# Altium schematic symbol library SCH_Module.SchLib: 4 symbols
Pins are listed as number, name and electrical type; pins without a type are passive.

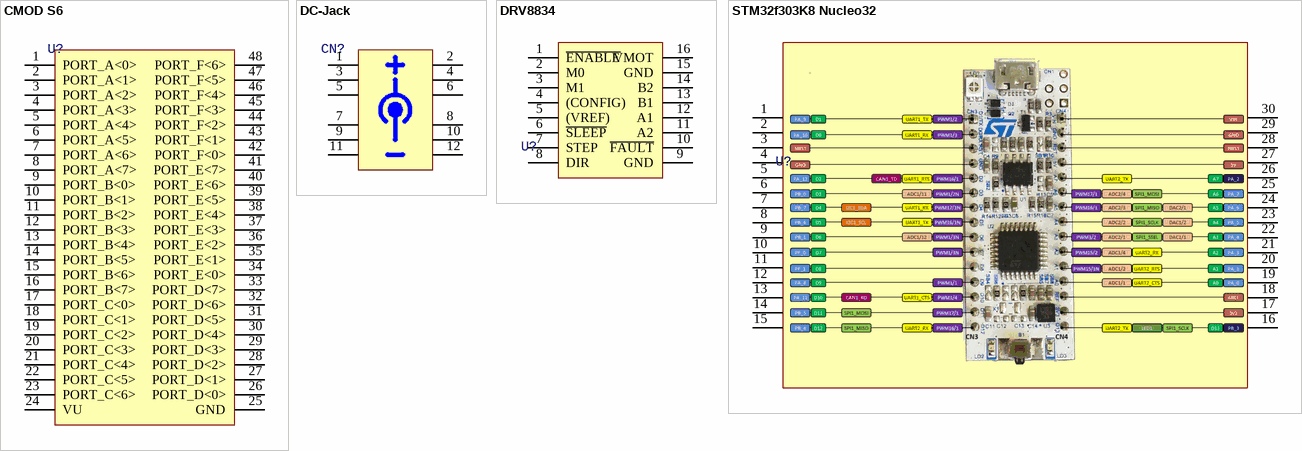
[diagram p0: symbols CMOD S6 to STM32f303K8 Nucleo32]

## CMOD S6
designator U?  (value not drawn)
Digilent CMOD S6; Manufacturer: Digilent, Inc.; Manufacturer Part Number: 410-282; 部品状況: 有効; タイプ: FPGA; 同時使用/関連製品: Spartan 6; 内容: ボード; Supplier 1: Digi-Key; RoHS: RoHS Compliant; Category: 開発ボード、キット、プログラマ; Stock 1: 127; Pricing 1: 1=8384 (JPY); ComponentLink1URL: https://reference.digilentinc.com/_media/cmod_s6:cmods6_rm.pdf; ComponentLink1Description: https://reference.digilentinc.com/_media/cmod_s6:cmods6_rm.pdf; Supplier Part Number 1: 1286-1046-ND
footprint CMOD-S6
pins: 1 PORT_A<0>, 2 PORT_A<1>, 3 PORT_A<2>, 4 PORT_A<3>, 5 PORT_A<4>, 6 PORT_A<5>, 7 PORT_A<6>, 8 PORT_A<7>, 9 PORT_B<0>, 10 PORT_B<1>, 11 PORT_B<2>, 12 PORT_B<3>, 13 PORT_B<4>, 14 PORT_B<5>, 15 PORT_B<6>, 16 PORT_B<7>, 17 PORT_C<0>, 18 PORT_C<1>, 19 PORT_C<2>, 20 PORT_C<3>, 21 PORT_C<4>, 22 PORT_C<5>, 23 PORT_C<6>, 24 VU, 25 GND, 26 PORT_D<0>, 27 PORT_D<1>, 28 PORT_D<2>, 29 PORT_D<3>, 30 PORT_D<4>, 31 PORT_D<5>, 32 PORT_D<6>, 33 PORT_D<7>, 34 PORT_E<0>, 35 PORT_E<1>, 36 PORT_E<2>, 37 PORT_E<3>, 38 PORT_E<4>, 39 PORT_E<5>, 40 PORT_E<6>, 41 PORT_E<7>, 42 PORT_F<0>, 43 PORT_F<1>, 44 PORT_F<2>, 45 PORT_F<3>, 46 PORT_F<4>, 47 PORT_F<5>, 48 PORT_F<6>

## DC-Jack
designator CN?, comment AE-DC-JACK-10A-DIP  (value not drawn)
footprint DC-Jack_DIP
pins: 1, 2, 3, 4, 5, 6, 7, 8, 9, 10, 11, 12

## DRV8834
designator U?  (value not drawn)
Pololu DRV8834 Module
footprint DRV8834 (DRV8834 Pololu Module)
pins: 1 ~{ENABLE}, 2 M0, 3 M1, 4 (CONFIG), 5 (VREF), 6 ~{SLEEP}, 7 STEP, 8 DIR, 9 GND, 10 ~{FAULT}, 11 A2, 12 A1, 13 B1, 14 B2, 15 GND, 16 VMOT

## STM32f303K8 Nucleo32
designator U?, comment NUCLEO-F303K8  (value not drawn)
BOARD NUCLEO STM32F303K8T6; Manufacturer: STMicroelectronics; Board Type: Evaluation Platform; Core Processor: ARM® Cortex®-M4; For Use With/Related Products: STM32F303K8, mbed-Enabled Development; Contents: Board(s); Supplier 1: Digi-Key; Manufacturer Part Number: NUCLEO-F303K8; RoHS: RoHS Compliant; Category: Development Boards, Kits, Programmers; Stock 1: 303; Pricing 1: 1=10.99 (USD); Part Status: Active; Type: MCU 32-Bit; Operating System: -; Platform: Nucleo; Mounting Type: Fixed; ComponentLink1URL: http://www.st.com/content/ccc/resource/technical/document/data_brief/b1/d8/13/d4/b0/b7/4b/6e/DM00214578.pdf/files/DM00214578.pdf/jcr:content/translations/en.DM00214578.pdf; ComponentLink1Description: http://www.st.com/content/ccc/resource/technical/document/data_brief/b1/d8/13/d4/b0/b7/4b/6e/DM00214578.pdf/files/DM00214578.pdf/jcr:content/translations/en.DM00214578.pdf; Supplier Part Number 1: 497-15981-ND
footprint STM32 Nucleo32
pins: 1 PA9-D1-UART1_RX-PWM1/2, 2 PA10-D0-UART1_RX-PWM1/3, 3 NRST, 4 GND, 5 PA12-D2-CAN1_TD-UART1_RTS-PWM16/1, 6 PB0-D3-ADC1/11-PWM1/2N, 7 PB7-D4-I2C1_SDA-UART1_RX-PWM17/1N, 8 PB6-D5-I2C1_SCL-UART1_TX-PWM16/1N, 9 PB1-D6-ADC1/12-PWM1/3N, 10 PF0-D7-PWM1/3N, 11 PF0-D8, 12 PA8-D9-PWM1/1, 13 PA11-D10-CAN_RD-UART1_CTS-PWM1/4, 14 PB5-D11-SPI1_MOSI-PWM17/1, 15 PB4-D12-SPI1_MISO-UART2_RX-PWM16/1, 16 UART2_TX-LED1-SPI1_SCLK-D13-PB3, 17 3V3, 18 AREF, 19 ADC1/1-UART2_CTS-A0-PA0, 20 PWM15/1N-ADC1/2-UART2_RTS-A1-PA1, 21 PWM15/2-ADC1/4-UART2_RX-A2-PA3, 22 PWM3/2-ADC2/1-SPI1_SSEL-DAC1/1-A3-PA4, 23 ADC2/2-SPI1_SCLK-DAC1/2-A4-PA5, 24 PWM16/1-ADC2/3-SPI1_MISO-DAC2/1-A5-PA6, 25 PWM17/1-ADC2/4-SPI1_MOSI-A6-PA7, 26 UART2_TX-A7-PA2, 27 5V, 28 NRST, 29 GND, 30 VIN